# EAGLE library part MCP2025-330E/P (library Microchip-MCP2025-330E_P)
LIN Transceiver with Voltage Regulator,DIP-8
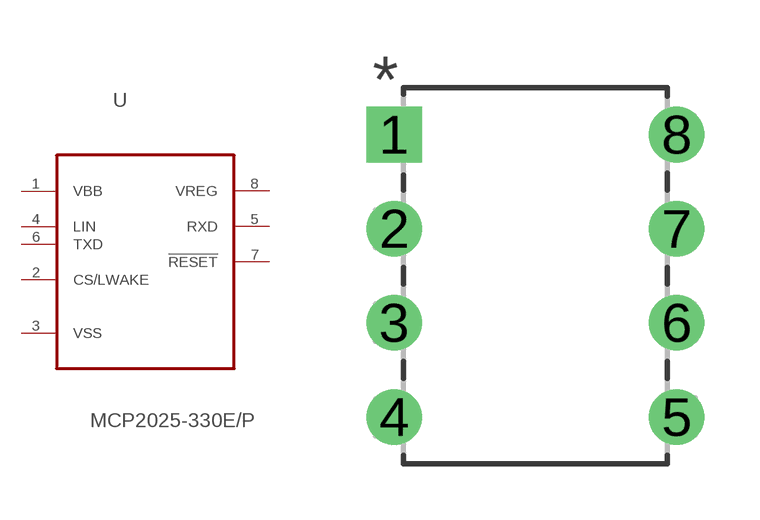
[diagram p0: symbol with the pads of DIP254P762X533-8; footprint DIP254P762X533-8]

Designator prefix U

## MCP2025-330E/P (MPN: MCP2025-330E/P; OC_FARNELL: 2362832; OC_NEWARK: 12X8692; PACKAGE: DIP-8; SUPPLIER: MICROCHIP)  [DIP254P762X533-8]
1  VBB  pwr
2  CS/LWAKE  in
3  VSS  pwr
4  LIN
5  RXD  out
6  TXD  in
7  !RESET  out
8  VREG  out

## Footprint DIP254P762X533-8 (pad centres in mm)
drill 0.991 square: 1 -7.62,7.62
drill 0.991: 2 -7.62,5.08; 3 -7.62,2.54; 4 -7.62,0; 5 0,0; 6 0,2.54; 7 0,5.08; 8 0,7.62